# EAGLE library part MDIN06K (library con-yamaichi)
YAMAICHI CONNECTOR
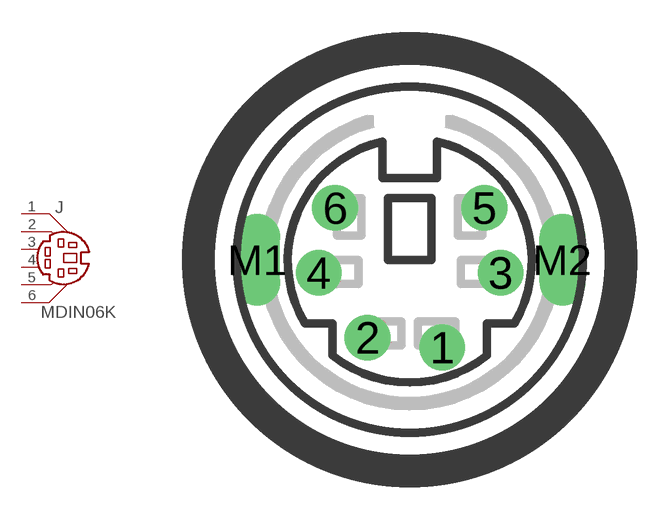
[diagram p23: symbol with the pads of MDIN06K; footprint MDIN06K]

Designator prefix J

## MDIN06K  [MDIN06K]
1  1  pas
2  2  pas
3  3  pas
4  4  pas
5  5  pas
6  6  pas

## Footprint MDIN06K (pad centres in mm)
Mini Din YAMAICHI CONNECTOR
drill 0.9: 1 1,-2.7; 2 -1.3,-2.4; 3 2.8,-0.4; 4 -2.8,-0.4; 5 2.3,1.6; 6 -2.3,1.6
drill 0.9 long: M1 -4.7,0; M2 4.7,0